# EAGLE library part MA07-2 (library con-lstb)
PIN HEADER
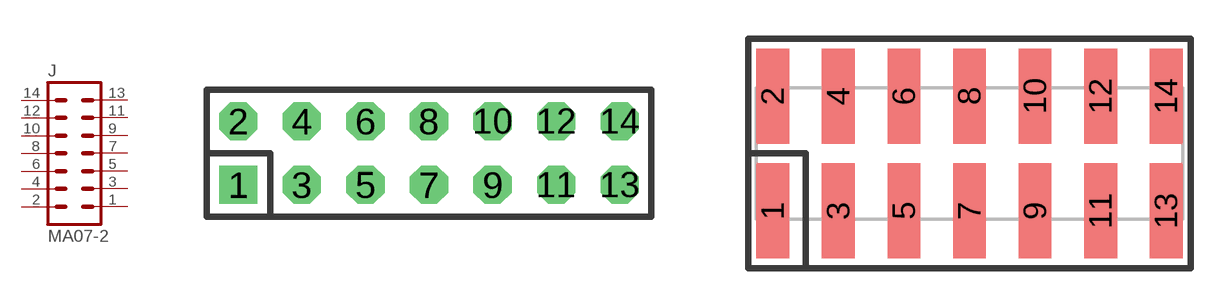
[diagram p7: symbol with the pads of MA07-2; footprints MA07-2, SMD-MA07-2]

Designator prefix J

## MA07-2  [MA07-2]
1  1  pas
2  2  pas
3  3  pas
4  4  pas
5  5  pas
6  6  pas
7  7  pas
8  8  pas
9  9  pas
10  10  pas
11  11  pas
12  12  pas
13  13  pas
14  14  pas

## MA07-2SMD  [SMD-MA07-2]
Pads as for MA07-2

## Footprint MA07-2 (pad centres in mm)
PIN HEADER
drill 1.016 square: 1 -7.62,-1.27
drill 1.016 octagon: 2 -7.62,1.27; 3 -5.08,-1.27; 4 -5.08,1.27; 5 -2.54,-1.27; 6 -2.54,1.27; 7 0,-1.27; 8 0,1.27; 9 2.54,-1.27; 10 2.54,1.27; 11 5.08,-1.27; 12 5.08,1.27; 13 7.62,-1.27; 14 7.62,1.27

## Footprint SMD-MA07-2 (pad centres in mm)
SMD Dual Row, Vertical - 0.1" Sullins, G XCXXDABN-M30 Series
smd 1.27 x 3.68: 1 -7.62,-2.223; 2 -7.62,2.223; 3 -5.08,-2.223; 4 -5.08,2.223; 5 -2.54,-2.223; 6 -2.54,2.223; 7 0,-2.223; 8 0,2.223; 9 2.54,-2.223; 10 2.54,2.223; 11 5.08,-2.223; 12 5.08,2.223; 13 7.62,-2.223; 14 7.62,2.223